# Altium footprint library ATMEL_ICE.PcbLib: 1 footprints
Each footprint in its own frame and in the unit in brackets; x right, y up, seen from the top. Pads: shape width x height; smd on the part's side, far side on the other; paste and mask are expansions set on the pad; w line width, h text height; cw(c..) or ccw(c..) is an arc to the next point about the centre after c.
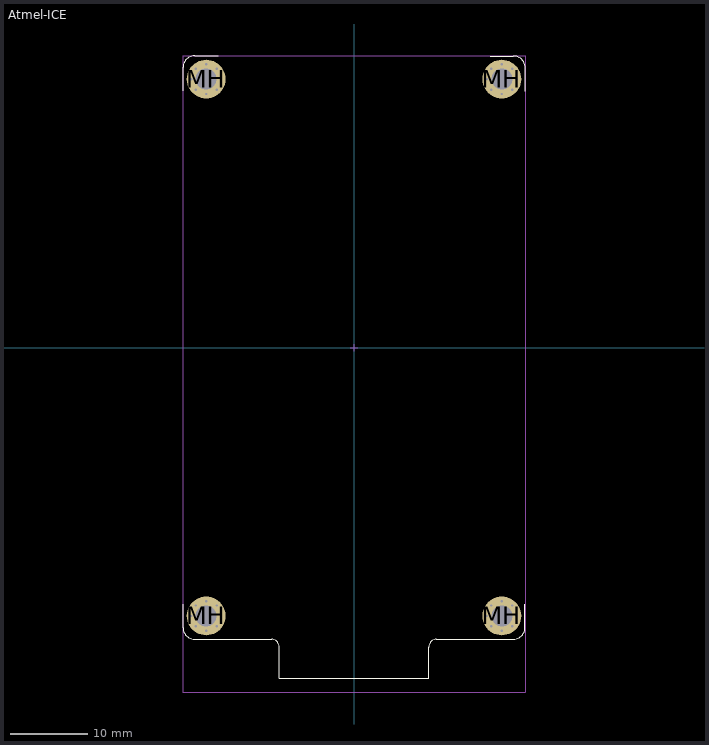
[diagram p0: the footprint, top view; thin cyan lines are the x and y axes]

## Atmel-ICE [mm]
pads (36):
  round 0.7 hole 0.3 mask+0.102: MH(-20.9,-34.5) MH(-20.9,34.5) MH(-20.344,-35.844) MH(-20.344,-33.156) MH(-20.344,33.156) MH(-20.344,35.844) MH(-19,-36.4) MH(-19,-32.6) MH(-19,32.6) MH(-19,36.4) MH(-17.656,-35.844) MH(-17.656,-33.156) MH(-17.656,33.156) MH(-17.656,35.844) MH(-17.1,-34.5) MH(-17.1,34.5) MH(17.1,-34.5) MH(17.1,34.5) MH(17.656,-35.844) MH(17.656,-33.156) MH(17.656,33.156) MH(17.656,35.844) MH(19,-36.4) MH(19,-32.6) MH(19,32.6) MH(19,36.4) MH(20.344,-35.844) MH(20.344,-33.156) MH(20.344,33.156) MH(20.344,35.844) MH(20.9,-34.5) MH(20.9,34.5)
  round 5 hole 2.7: MH(-19,-34.5) MH(-19,34.5) MH(19,-34.5) MH(19,34.5)
Top Overlay:
  lines w0.153: -21.975,-33 -21.975,-36 ccw(c-20.475,-36) -20.475,-37.5 -10.6,-37.5 cw(c-10.6,-38.5) -9.6,-38.5 -9.6,-42.5 9.6,-42.5 9.6,-38.5 cw(c10.6,-38.5) 10.6,-37.5 20.475,-37.5 ccw(c20.475,-36) 21.975,-36 21.975,-33 ; -21.975,33 -21.975,36 cw(c-20.475,36) -20.475,37.5 -17.475,37.5 ; 17.5,37.475 20.5,37.475 cw(c20.5,35.975) 22,35.975 22,32.975
Top Assembly:
  lines w0.1: -22,-44.3 -22,37.5 22,37.5 22,-44.3 -22,-44.3
  text "'.Designator'" at 0.333,-4.532 h0.8
Mechanical 15:
  lines w0.1: -0.45,0 0.45,0 ; 0,-0.45 0,0.45 ; -22,-44.3 22,-44.3 22,37.5 -22,37.5 -22,-44.3
3D body "Atmel-ICE v8.step": height 27.19, standoff 0, extent -22,-44.3 22,39.3